# Altium schematic symbol library Sch_Oscilators.SchLib: 2 symbols
Pins are listed as number, name and electrical type; pins without a type are passive.

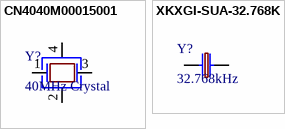
[diagram p0: symbols CN4040M00015001 to XKXGI-SUA-32.768K]

## CN4040M00015001
designator Y?, comment 40MHz Crystal
40MHz Crystal Oscillator 15pF ±10ppm ±30ppm SMD-2016-4P Crystals ROHS; Manufacturer: huaxindianzi; Manufacturer Part Number: CN4040M00015001; Supplier: LCSC; RoHS: Yes; LCSC Part #: C7294703; Package: SMD-2016-4P
footprint SMD-2016-4P
pins: 1, 2, 3, 4

## XKXGI-SUA-32.768K
designator Y?, comment 32.768kHz
32.768kHz Crystal Oscillator 12.5pF ±20ppm ±30ppm SMD3215-2P Crystals ROHS; Manufacturer: YXC Crystal Oscillators; Manufacturer Part Number: XKXGI-SUA-32.768K; Supplier: LCSC; RoHS: Yes; LCSC Part #: C5213671; Value: 32.768kHz; Case/Package: SMD3215-2P
footprint SMD3215-2P
pins: 1, 2